# Altium schematic symbol library ZENER GENERAL DIODE.Schlib: 1 symbol
Pins are listed as number, name and electrical type; pins without a type are passive.

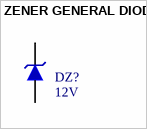
[diagram p0: symbol ZENER GENERAL DIODE]

## ZENER GENERAL DIODE
designator DZ?, comment 12V
DIODE ZENER GENERAL; Published: 2017-1-12; PackageVersion: 2017-1-12; PackageReference: DO 35; Publisher: Abbas Basereh; PackageDescription: DIODE GEN ZENER; ComponentLink1Description: Manufacturer Link; ComponentLink2Description: Datasheet; VALUE: 12V
footprint DO 35 (Diode)
footprint SOD123 (SOD-123; 2 Leads; Body 2.7 x 1.6 mm, (LxW))
footprint MELF (MELF SMD Diod)
footprint MiniMELF
pins: 1, 2